# Altium footprint library SOD.PcbLib: 6 footprints
Each footprint in its own frame and in the unit in brackets; x right, y up, seen from the top. Pads: shape width x height; smd on the part's side, far side on the other; paste and mask are expansions set on the pad; w line width, h text height; cw(c..) or ccw(c..) is an arc to the next point about the centre after c.
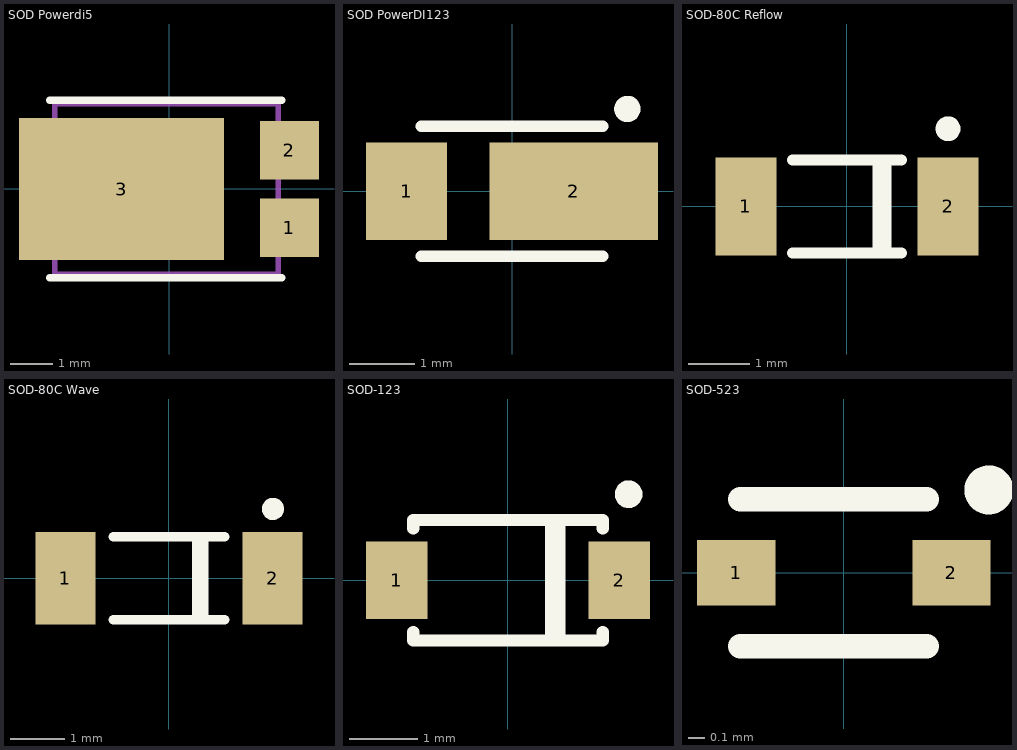
[diagram p0: the footprints below, top view; thin cyan lines are the x and y axes]

## SOD Powerdi5 [mm] "Diodes Inc recommended land pattern, ap02001.pdf rev 60"
height 1.15
pads (3):
  rect 1.4x1.39 smd: 1(2.856,-0.92) 2(2.856,0.92)
  rect 4.86x3.36 smd: 3(-1.126,0)
Top Overlay:
  lines w0.18: -2.825,-2.1 2.675,-2.1 ; -2.825,2.1 2.675,2.1
Mechanical 5:
  lines w0.127: -2.706,-0.94 -3.356,-0.94 -3.356,-0.5 -3.206,-0.5 -3.206,0.5 -3.356,0.5 -3.356,0.94 -2.706,0.94 ; -2.706,-0.94 -2.706,0.94 ; -2.706,-0.94 -2.706,-2.025 2.594,-2.025 2.594,-1.415 ; -2.706,0.94 -2.706,2.025 2.594,2.025 2.594,1.415 ; 2.594,-1.415 3.244,-1.415 3.244,-0.425 2.594,-0.425 ; 2.594,-1.415 2.594,-0.425 ; 2.594,-0.425 2.594,0.425 ; 2.594,0.425 3.244,0.425 3.244,1.415 2.594,1.415 ; 2.594,0.425 2.594,1.415
3D body "PowerDI-5.stp": height 1.17, standoff 0.02, extent -3.35,-2.025 3.25,2.025

## SOD PowerDI123 [mm]
pads (2):
  rect 1.25x1.5 smd: 1(-1.625,0)
  rect 2.6x1.5 smd: 2(0.95,0)
Top Overlay:
  circle w0.203: c1.778,1.27 r0.102
  lines w0.178: -1.397,-1 1.397,-1 ; -1.397,1 1.397,1
3D body "User Library-POWERDI-123.STEP": height 1, standoff 0, extent -1.95,-0.965 1.95,0.965

## SOD-80C Reflow [mm]
pads (2):
  rect 1x1.6 smd: 1(-1.65,0) 2(1.65,0)
Top Overlay:
  circle w0.203: c1.651,1.27 r0.102
  lines w0.178: -0.889,-0.762 0.889,-0.762 ; -0.889,0.762 0.889,0.762 ; 0.508,-0.762 0.508,0.762 ; 0.635,-0.762 0.635,0.762
3D body "User Library-sod80-1-mini-melf-LL4148.step": height 1.44, standoff -0.01, extent -1.75,-0.725 1.75,0.725

## SOD-80C Wave [mm]
pads (2):
  rect 1.1x1.7 smd: 1(-1.9,0) 2(1.9,0)
Top Overlay:
  circle w0.203: c1.905,1.27 r0.102
  lines w0.178: -1.016,-0.762 1.016,-0.762 ; -1.016,0.762 1.016,0.762 ; 0.508,-0.762 0.508,0.762 ; 0.635,-0.762 0.635,0.762
3D body "User Library-sod80-1-mini-melf-LL4148.step": height 1.44, standoff -0.01, extent -1.75,-0.725 1.75,0.725

## SOD-123 [mm]
pads (2):
  rect 0.91x1.143 smd: 1(-1.64,0) 2(1.64,0)
Top Overlay:
  circle w0.203: c1.778,1.27 r0.102
  lines w0.178: -1.397,-0.762 -1.397,-0.889 1.397,-0.889 1.397,-0.762 ; -1.397,0.762 -1.397,0.889 1.397,0.889 1.397,0.762 ; 0.635,-0.889 0.635,0.889 ; 0.762,-0.889 0.762,0.889
3D body "User Library-SOD-123 CASE 425-04.STEP": height 1.2, standoff 0, extent -1.65,-0.8 1.65,0.8

## SOD-523 [mm] "SC-79, SOD-523"
pads (2):
  rect 0.48x0.4 smd: 1(-0.66,0) 2(0.66,0)
Top Overlay:
  circle w0.2: c0.889,0.508 r0.05
  lines w0.15: -0.635,-0.45 0.508,-0.45 ; -0.635,0.45 0.508,0.45
3D body "User Library-SOD523-1.step": height 0.7, standoff 0, extent -0.8,-0.399 0.8,0.399